# EAGLE library part TPS62130 (library comma.ai)
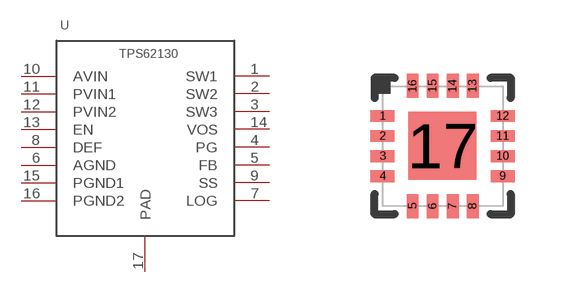
[diagram p19: symbol with the pads of VQFN16; footprint VQFN16]

Designator prefix U

## TPS62130  [VQFN16]
1  SW1
2  SW2
3  SW3
4  PG
5  FB
6  AGND
7  LOG
8  DEF
9  SS
10  AVIN
11  PVIN1
12  PVIN2
13  EN
14  VOS
15  PGND1
16  PGND2
17  PAD

## Footprint VQFN16 (pad centres in mm)
VQFN16 body 3 x 3 x 0.85 mm
smd 0.6 x 0.3: 1 -1.5,0.75; 2 -1.5,0.25; 3 -1.5,-0.25; 4 -1.5,-0.75; 9 1.5,-0.75; 10 1.5,-0.25; 11 1.5,0.25; 12 1.5,0.75
smd 0.3 x 0.6: 5 -0.75,-1.5; 6 -0.25,-1.5; 7 0.25,-1.5; 8 0.75,-1.5; 13 0.75,1.5; 14 0.25,1.5; 15 -0.25,1.5; 16 -0.75,1.5
smd 1.7 x 1.7: 17 0,0